# EAGLE library part LYNXMOTION_GEARBOX-MTR_ENCODER-YC52010_LABVIEW (library PiB_motors)
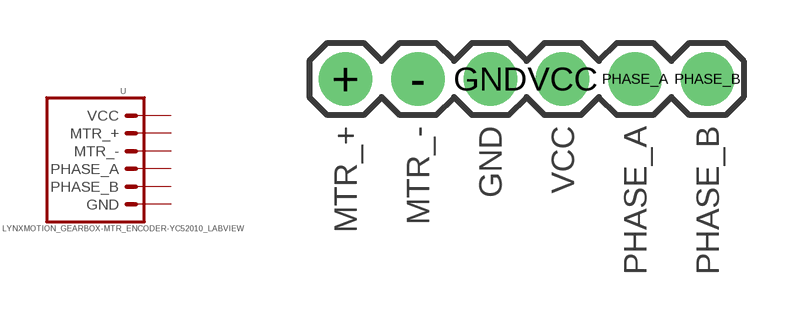
[diagram p1: symbol with the pads of 01X06-LYNXMOTION_MOTOR-ENCODER; footprint 01X06-LYNXMOTION_MOTOR-ENCODER]

Designator prefix -

## LYNXMOTION_GEARBOX-MTR_ENCODER-YC52010_LABVIEW  [01X06-LYNXMOTION_MOTOR-ENCODER]
+  MTR_-
-  MTR_+
GND  GND
PHASE_A  PHASE_A
PHASE_B  PHASE_B
VCC  VCC

## Footprint 01X06-LYNXMOTION_MOTOR-ENCODER (pad centres in mm)
drill 1.016 pad 1.88: + -6.35,0; - -3.81,0; GND -1.27,0; PHASE_A 3.81,0; PHASE_B 6.35,0; VCC 1.27,0